# Altium schematic symbol library MAX31850JATB+.SchLib: 1 symbol
Pins are listed as number, name and electrical type; pins without a type are passive.

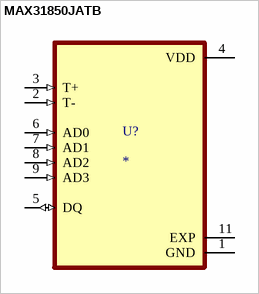
[diagram p0: symbol MAX31850JATB]

## MAX31850JATB
designator U?
None; MP: MAX31850JATB; MF: {'manufacturer': u'Maxim Integrated'}; Value: *; Availability: Unavailable; Price: None; Package: None
footprint SON50P300X400X80-11N
pins: 1 GND (power), 2 T- (in), 3 T+ (in), 4 VDD (power), 5 DQ (io), 6 AD0 (in), 7 AD1 (in), 8 AD2 (in), 9 AD3 (in), 11 EXP (power)